# Altium schematic symbol library TPSR105K025R4000.SchLib: 1 symbol
Pins are listed as number, name and electrical type; pins without a type are passive.

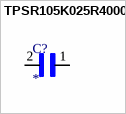
[diagram p0: symbol TPSR105K025R4000]

## TPSR105K025R4000
designator C?
Cap Tant Solid 1uF 25V R CASE 10% (2.05 X 1.3 X 1.2mm) SMD 2012-12 4 Ohm 125Â°C T/R; MP: TPSR105K025R4000; Package: None; Price: None; Value: *; Availability: Unavailable
footprint CAPC2012X140N
pins: 1, 2